# Altium footprint library Pathos.PcbLib: 69 footprints (part 3 of 5)
Each footprint in its own frame and in the unit in brackets; x right, y up, seen from the top. Pads: shape width x height; smd on the part's side, far side on the other; paste and mask are expansions set on the pad; w line width, h text height; cw(c..) or ccw(c..) is an arc to the next point about the centre after c.
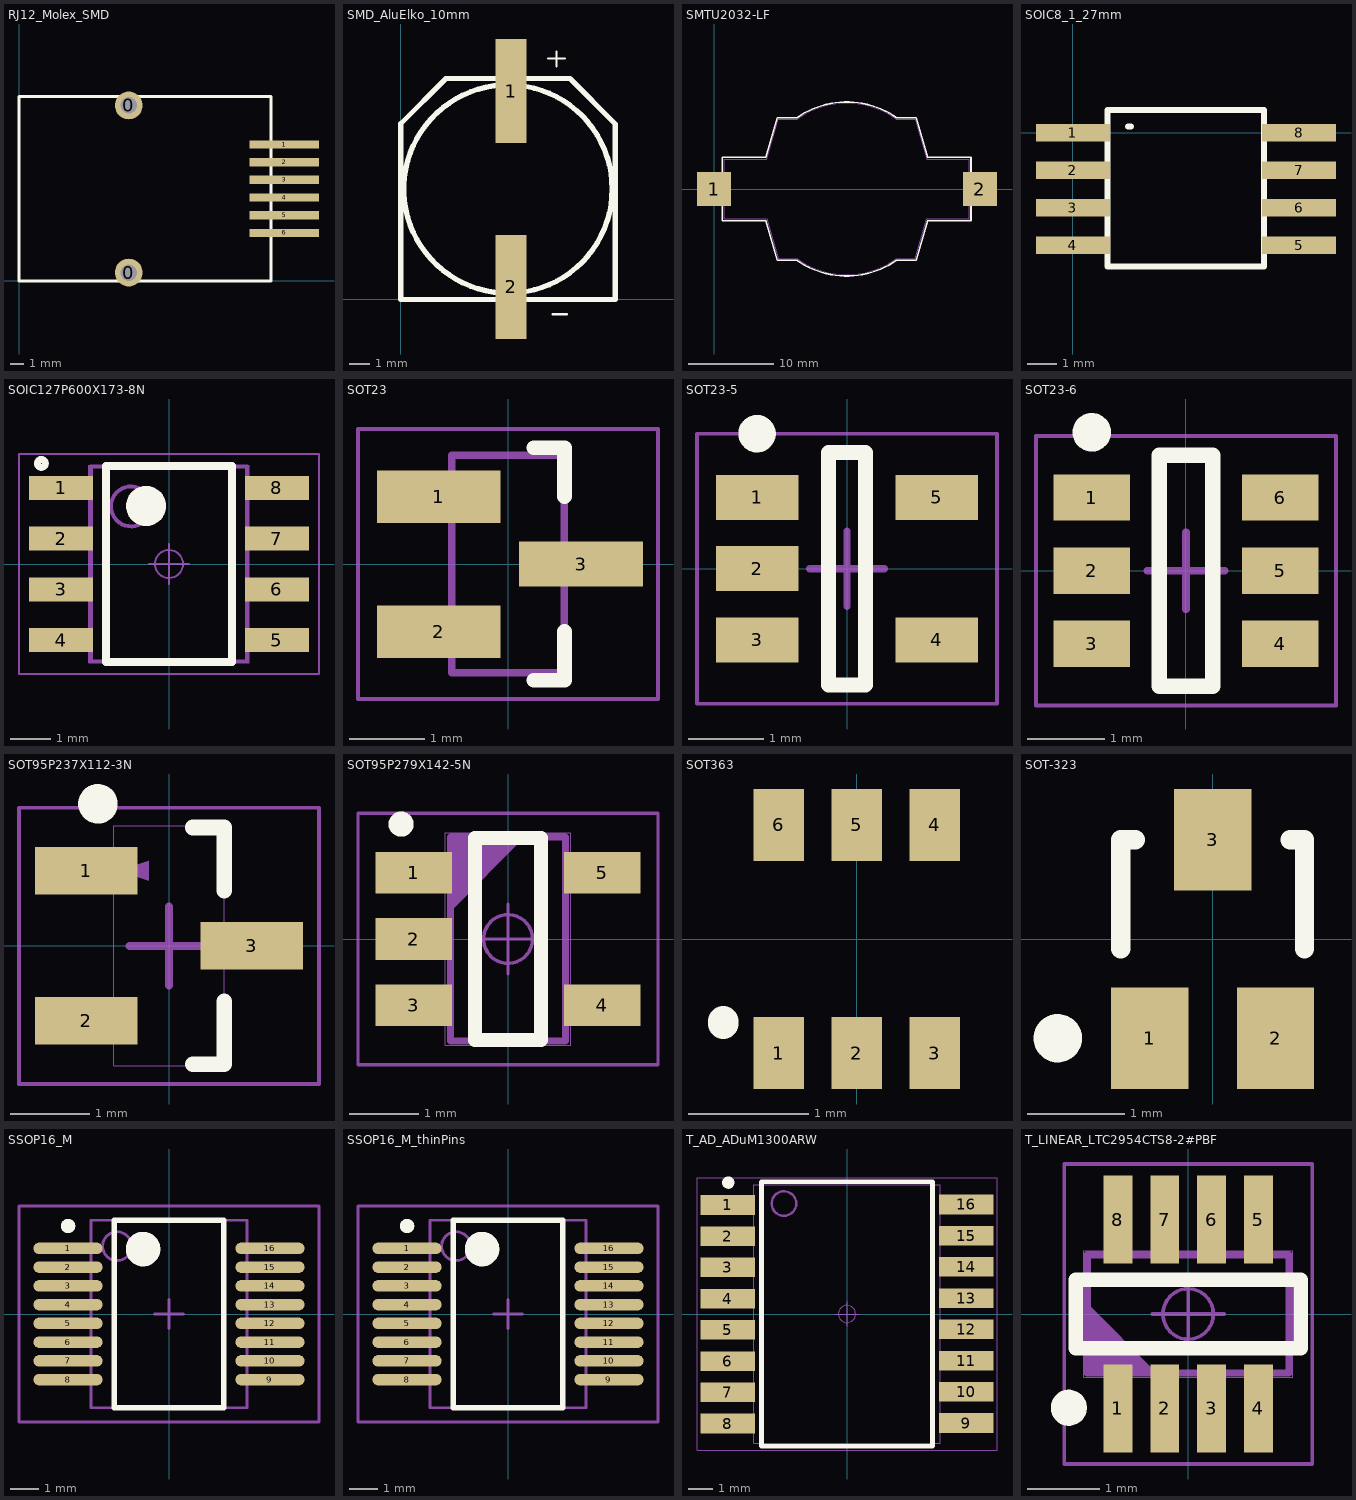
[diagram p2: the footprints below, top view; thin cyan lines are the x and y axes]

## RJ12_Molex_SMD [mm]
pads (8):
  round 2 hole 1.2: 0(7.88,0.6) 0(7.88,12.61)
  rect 5x0.6 smd: 1(19.04,9.8) 2(19.04,8.53) 3(19.04,7.26) 4(19.04,5.99) 5(19.04,4.72) 6(19.04,3.45)
Top Overlay:
  lines w0.2: 0,0 0,13.25 18.1,13.25 18.1,0 0,0
3D body: height 11.5, standoff 0, extent 0,0 18.1,13.25

## SMD_AluElko_10mm [mm]
pads (2):
  rect 1.5x5 smd: 1(5.3,10) 2(5.3,0.6)
Top Overlay:
  circle w0.254: c5.15,5.3 r5
  lines w0.1: 7.083,11.557 7.883,11.557 ; 7.29,-0.711 7.99,-0.711 ; 7.482,11.907 7.483,11.182
  lines w0.254: 0,0 0,8.433 2.167,10.6 8.12,10.6 10.3,8.42 10.3,0 0,0
3D body: height 10.2, standoff 0, extent 0.176,0.305 10.136,10.285

## SMTU2032-LF [mm]
pads (2):
  rect 4x4 smd: 1(0,0) 2(31.1,0)
Top Overlay:
  lines w0.2: 9.659,8.331 7.387,8.331 6.037,3.7 0.969,3.7 0.969,-3.7 6.04,-3.7 7.384,-8.334 9.674,-8.334 ; 9.676,-8.33 ccw(c15.52,0) 21.358,-8.334 ; 9.681,8.334 cw(c15.519,0) 21.363,8.33 ; 21.364,8.331 23.654,8.331 24.999,3.7 30.069,3.7 30.069,-3.7 25.002,-3.7 23.652,-8.334 21.38,-8.334 ; 0.969,-3.471 0.969,-3.471
Mechanical 2:
  lines w0.01: 1.168,-3.503 1.168,3.497 6.168,3.497 7.518,8.147 9.7,8.147 cw(c15.518,-0.003) 21.336,8.147 23.518,8.147 24.868,3.497 29.868,3.497 29.868,-3.503 24.868,-3.503 23.518,-8.153 21.337,-8.153 cw(c15.519,-0.003) 9.7,-8.153 7.518,-8.153 6.168,-3.503 1.168,-3.503
3D body: height 5.4, standoff 0, extent 1.168,-8.155 29.868,8.145
3D body: height 5.2, standoff 0, extent 5.08,-10.49 25.997,10.468

## SOIC8_1_27mm [mm]
pads (8):
  rect 2.5x0.6 smd: 1(0,0) 2(0,-1.27) 3(0,-2.54) 4(0,-3.81) 5(7.64,-3.81) 6(7.64,-2.54) 7(7.64,-1.27) 8(7.64,0)
Top Overlay:
  lines w0.2: 1.856,0.203 1.958,0.203 ; 1.171,-4.521 6.451,-4.521 6.451,0.759 1.171,0.759 1.171,-4.521

## SOIC127P600X173-8N [mm]
height 1.75
pads (8):
  rect 1.6x0.6 smd: 1(-2.7,1.905) 2(-2.7,0.635) 3(-2.7,-0.635) 4(-2.7,-1.905) 5(2.7,-1.905) 6(2.7,-0.635) 7(2.7,0.635) 8(2.7,1.905)
Top Overlay:
  circle w0.17: c-3.191,2.515 r0.1
  circle w0.5: c-0.575,1.45 r0.25
  lines w0.2: -1.575,-2.45 -1.575,2.45 1.575,2.45 1.575,-2.45 -1.575,-2.45
Mechanical 2:
  lines w0.001: -2,-2.475 -2,2.475 2,2.475 2,-2.475 -2,-2.475
Mechanical 3:
  circle w0.1: c-0.95,1.44 r0.5
  lines w0.1: -1.95,-2.44 -1.95,2.44 1.95,2.44 1.95,-2.44 -1.95,-2.44
Mechanical 13:
  circle w0.05: c0,0 r0.35
  lines w0.05: -0.5,0 0.5,0 ; 0,-0.5 0,0.5 ; -3.75,-2.75 -3.75,2.75 3.75,2.75 3.75,-2.75 -3.75,-2.75
3D body: height 1.75, standoff 0, extent -2,-2.475 2,2.475

## SOT23 [mm] "SOT23, 3-Leads, Body 2.90x2.00mm, Pitch 0.85mm, IPC Medium Density"
height 1.3
pads (3):
  rect 1.65x0.7 smd: 1(-0.925,0.9) 2(-0.925,-0.9)
  rect 1.65x0.6 smd: 3(0.975,0)
Top Overlay:
  lines w0.2: 0.35,-1.55 0.75,-1.55 0.75,-0.9 ; 0.35,1.55 0.75,1.55 0.75,0.9
Mechanical 13:
  lines w0.1: -0.75,-1.45 -0.75,1.45 0.75,1.45 0.75,-1.45 -0.75,-1.45
Mechanical 15:
  lines w0.05: -2,-1.8 -2,1.8 2,1.8 2,-1.8 -2,-1.8
3D body: height 1.3, standoff 0.1, extent -0.95,-1.6 0.95,1.6

## SOT23-5 [mm]
height 1.45
pads (5):
  rect 1.1x0.6 smd: 1(-1.2,0.95) 2(-1.2,0) 3(-1.2,-0.95) 4(1.2,-0.95) 5(1.2,0.95)
Top Overlay:
  circle w0.25: c-1.2,1.8 r0.125
  lines w0.2: -0.25,-1.55 -0.25,1.55 0.25,1.55 0.25,-1.55 -0.25,-1.55
Mechanical 15:
  lines w0.05: -2,-1.8 2,-1.8 2,1.8 -2,1.8 -2,-1.8
  lines w0.1: -0.5,0 0.5,0 ; 0,-0.5 0,0.5
3D body: height 1.45, standoff 0.15, extent -0.875,-1.525 0.875,1.525

## SOT23-6 [mm]
height 1
pads (6):
  rect 1x0.6 smd: 1(-1.225,0.95) 2(-1.225,0) 3(-1.225,-0.95) 4(1.225,-0.95) 5(1.225,0) 6(1.225,0.95)
Top Overlay:
  circle w0.25: c-1.225,1.8 r0.125
  lines w0.2: -0.35,-1.5 -0.35,1.5 0.35,1.5 0.35,-1.5 -0.35,-1.5
Mechanical 15:
  lines w0.05: -1.95,-1.75 1.95,-1.75 1.95,1.75 -1.95,1.75 -1.95,-1.75
  lines w0.1: -0.5,0 0.5,0 ; 0,-0.5 0,0.5
3D body: height 1, standoff 0.05, extent -0.825,-1.5 0.825,1.5

## SOT95P237X112-3N [mm] "SOT23, 3-Leads, Body 3.0x2.6mm (max), Pitch 0.95mm, IPC Medium Density"
height 1.12
pads (3):
  rect 1.3x0.6 smd: 1(-1.05,0.95) 2(-1.05,-0.95) 3(1.05,0)
Top Overlay:
  circle w0.25: c-0.9,1.8 r0.125
  lines w0.2: 0.3,-1.5 0.7,-1.5 0.7,-0.7 ; 0.3,1.5 0.7,1.5 0.7,0.7
Mechanical 2:
  lines w0.001: -0.7,-1.52 -0.7,1.52 0.7,1.52 0.7,-1.52 -0.7,-1.52
Mechanical 3:
  region: -0.635,0.95 -0.254,1.077 -0.254,0.823
  lines w0.1: -0.5,0 0.5,0 ; 0,-0.5 0,0.5
Mechanical 13:
  lines w0.05: -1.9,-1.75 1.9,-1.75 1.9,1.75 -1.9,1.75 -1.9,-1.75
3D body: height 1.12, standoff 0.2, extent -0.7,-1.52 0.7,1.52

## SOT95P279X142-5N [mm]
height 1.1
pads (5):
  rect 1.1x0.6 smd: 1(-1.35,0.95) 2(-1.35,0) 3(-1.35,-0.95) 4(1.35,-0.95) 5(1.35,0.95)
Top Overlay:
  circle w0.2: c-1.533,1.646 r0.08
  lines w0.2: -0.475,-1.45 0.475,-1.45 0.475,1.45 -0.475,1.45 -0.475,-1.45
Mechanical 2:
  lines w0.001: -0.9,-1.52 0.9,-1.52 0.9,1.52 -0.9,1.52 -0.9,-1.52
Mechanical 3:
  lines w0.1: -0.825,0.46 0.175,1.46 ; -0.825,0.56 0.075,1.46 ; -0.825,0.66 -0.025,1.46 ; -0.825,0.76 -0.125,1.46 ; -0.825,0.86 -0.225,1.46 ; -0.825,0.96 -0.325,1.46 ; -0.825,1.06 -0.425,1.46 ; -0.825,1.16 -0.525,1.46 ; -0.825,1.26 -0.625,1.46 ; -0.825,1.36 -0.725,1.46 ; -0.825,-1.46 0.825,-1.46 0.825,1.46 -0.825,1.46 -0.825,-1.46
Mechanical 13:
  circle w0.05: c0,0 r0.35
  lines w0.05: -0.5,0 0.5,0 ; 0,-0.5 0,0.5 ; -2.15,-1.8 2.15,-1.8 2.15,1.8 -2.15,1.8 -2.15,-1.8
3D body: height 1.1, standoff 0, extent -0.9,-1.52 0.9,1.52

## SOT363 [mm]
pads (6):
  rect 0.42x0.6 smd: 1(-0.65,-0.95) 2(0,-0.95) 3(0.65,-0.95) 4(0.65,0.95) 5(0,0.95) 6(-0.65,0.95)
Top Overlay:
  lines w0.254: -1.111,-0.707 -1.111,-0.686

## SOT-323 [mm] "SOT-323/SC-70; 3 Leads; Body 2.2 x 2.2 mm, inc. leads (LxW max)"
height 1
pads (3):
  rect 0.8x1.05 smd: 1(-0.65,-1.025) 2(0.65,-1.025) 3(0,1.025)
Top Overlay:
  circle w0.25: c-1.6,-1.025 r0.125
  lines w0.2: -0.95,-0.1 -0.95,1.025 -0.8,1.025 ; 0.8,1.025 0.95,1.025 0.95,-0.1

## SSOP16_M [mm] "SOP, 16-Leads, Body 6.2x5.3mm, Pitch 0.65mm, IPC Low Density"
height 1.99
pads (16):
  oval 2.4x0.4 smd: 1(-3.5,2.275) 2(-3.5,1.625) 3(-3.5,0.975) 4(-3.5,0.325) 5(-3.5,-0.325) 6(-3.5,-0.975) 7(-3.5,-1.625) 8(-3.5,-2.275) 9(3.5,-2.275) 10(3.5,-1.625) 11(3.5,-0.975) 12(3.5,-0.325) 13(3.5,0.325) 14(3.5,0.975) 15(3.5,1.625) 16(3.5,2.275)
Top Overlay:
  circle w0.6: c-0.9,2.25 r0.3
  circle w0.25: c-3.5,3.05 r0.125
  lines w0.2: -1.9,-3.25 1.9,-3.25 1.9,3.25 -1.9,3.25 -1.9,-3.25
Mechanical 13:
  circle w0.1: c-1.8,2.35 r0.5
  lines w0.1: -2.7,-3.25 2.7,-3.25 2.7,3.25 -2.7,3.25 -2.7,-3.25
Mechanical 15:
  lines w0.1: -0.5,0 0.5,0 ; 0,-0.5 0,0.5 ; -5.2,-3.75 5.2,-3.75 5.2,3.75 -5.2,3.75 -5.2,-3.75
3D body: height 1.99, standoff 0, extent -2.7,-3.25 2.7,3.25

## SSOP16_M_thinPins [mm] "SOP, 16-Leads, Body 6.2x5.3mm, Pitch 0.65mm, IPC Low Density"
height 1.99
pads (16):
  oval 2.4x0.4 smd: 1(-3.5,2.275) 2(-3.5,1.625) 3(-3.5,0.975) 4(-3.5,0.325) 5(-3.5,-0.325) 6(-3.5,-0.975) 7(-3.5,-1.625) 8(-3.5,-2.275) 9(3.5,-2.275) 10(3.5,-1.625) 11(3.5,-0.975) 12(3.5,-0.325) 13(3.5,0.325) 14(3.5,0.975) 15(3.5,1.625) 16(3.5,2.275)
Top Overlay:
  circle w0.25: c-3.5,3.05 r0.125
  circle w0.6: c-0.9,2.25 r0.3
  lines w0.2: -1.9,-3.25 -1.9,3.25 1.9,3.25 1.9,-3.25 -1.9,-3.25
Mechanical 13:
  circle w0.1: c-1.8,2.35 r0.5
  lines w0.1: -2.7,-3.25 -2.7,3.25 2.7,3.25 2.7,-3.25 -2.7,-3.25
Mechanical 15:
  lines w0.1: -0.5,0 0.5,0 ; 0,-0.5 0,0.5 ; -5.2,-3.75 -5.2,3.75 5.2,3.75 5.2,-3.75 -5.2,-3.75
3D body: height 1.99, standoff 0, extent -2.7,-3.25 2.7,3.25

## T_AD_ADuM1300ARW [mm] "SOIC _W 16 pin"
height 2.65
pads (16):
  rect 2.2x0.8 smd: 1(-4.85,4.435) 2(-4.85,3.165) 3(-4.85,1.895) 4(-4.85,0.625) 5(-4.85,-0.645) 6(-4.85,-1.915) 7(-4.85,-3.185) 8(-4.85,-4.455) 9(4.85,-4.435) 10(4.85,-3.165) 11(4.85,-1.895) 12(4.85,-0.625) 13(4.85,0.645) 14(4.85,1.915) 15(4.85,3.185) 16(4.85,4.455)
Top Overlay:
  circle w0.25: c-4.829,5.343 r0.125
  lines w0.2: 3.481,-5.378 -3.481,-5.378 -3.481,5.377 3.481,5.377 3.481,-5.377
Mechanical 2:
  lines w0.001: -3.8,-5.25 3.8,-5.25 3.8,5.25 -3.8,5.25 -3.8,-5.25
Mechanical 3:
  circle w0.1: c-2.565,4.493 r0.5
  lines w0.1: -3.481,-5.378 3.481,-5.378 3.481,5.377 -3.481,5.377 -3.481,-5.378
Mechanical 13:
  circle w0.05: c0,0 r0.35
  lines w0.05: -0.5,0 0.5,0 ; 0,-0.5 0,0.5 ; -6.1,-5.536 -6.1,5.535 6.1,5.535 6.1,-5.536 -6.1,-5.536
3D body: height 2.65, standoff 0, extent -3.8,-5.25 3.8,5.25

## T_LINEAR_LTC2954CTS8-2#PBF [mm]
height 1
pads (8):
  rect 0.4x1.22 smd: 1(-0.975,-1.31) 2(-0.325,-1.31) 3(0.325,-1.31) 4(0.975,-1.31) 5(0.975,1.31) 6(0.325,1.31) 7(-0.325,1.31) 8(-0.975,1.31)
Top Overlay:
  circle w0.25: c-1.655,-1.3 r0.125
  lines w0.2: -1.56,-0.475 -1.56,0.475 1.56,0.475 1.56,-0.475 -1.56,-0.475
Mechanical 2:
  lines w0.001: -1.45,-0.875 1.45,-0.875 1.45,0.875 -1.45,0.875 -1.45,-0.875
Mechanical 3:
  lines w0.1: -1.4,-0.72 -1.3,-0.82 ; -1.4,-0.62 -1.2,-0.82 ; -1.4,-0.52 -1.1,-0.82 ; -1.4,-0.42 -1,-0.82 ; -1.4,-0.32 -0.9,-0.82 ; -1.4,-0.22 -0.8,-0.82 ; -1.4,-0.12 -0.7,-0.82 ; -1.4,-0.02 -0.6,-0.82 ; -1.4,0.08 -0.5,-0.82 ; -1.4,-0.82 -1.4,0.82 1.4,0.82 1.4,-0.82 -1.4,-0.82
Mechanical 13:
  circle w0.05: c0,0 r0.35
  lines w0.05: -1.72,-2.08 1.72,-2.08 ; -1.72,-2.07 -1.72,2.08 1.72,2.08 1.72,-2.07 ; -0.5,0 0.5,0 ; 0,-0.5 0,0.5
3D body: height 1, standoff 0, extent -1.45,-0.875 1.45,0.875